# Altium footprint library QMC5883L.PcbLib: 1 footprints
Each footprint in its own frame and in the unit in brackets; x right, y up, seen from the top. Pads: shape width x height; smd on the part's side, far side on the other; paste and mask are expansions set on the pad; w line width, h text height; cw(c..) or ccw(c..) is an arc to the next point about the centre after c.
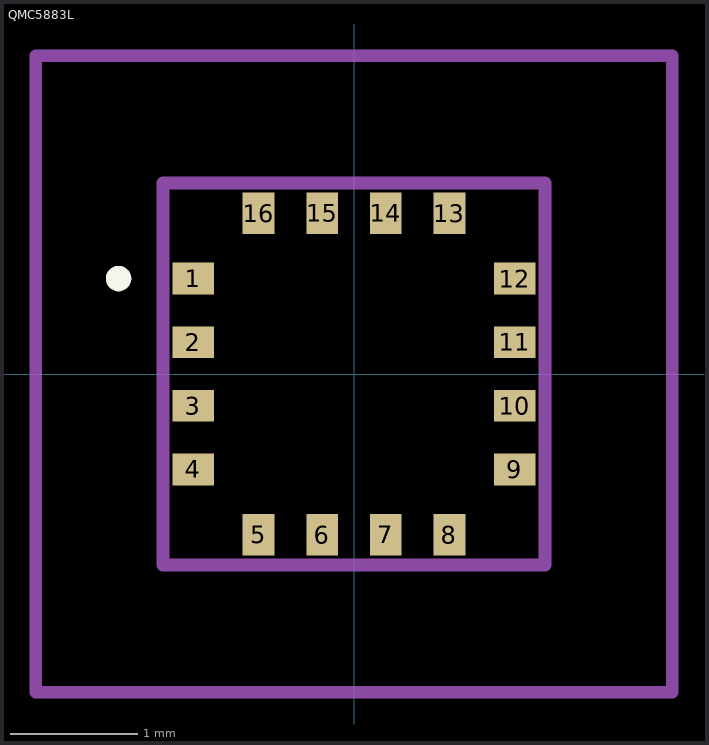
[diagram p0: the footprint, top view; thin cyan lines are the x and y axes]

## QMC5883L [mm]
pads (16):
  rect 0.325x0.25 smd: 1(-1.263,0.75) 2(-1.263,0.25) 3(-1.263,-0.25) 4(-1.263,-0.75) 9(1.263,-0.75) 10(1.263,-0.25) 11(1.263,0.25) 12(1.263,0.75)
  rect 0.25x0.325 smd: 5(-0.75,-1.263) 6(-0.25,-1.263) 7(0.25,-1.263) 8(0.75,-1.263) 13(0.75,1.263) 14(0.25,1.263) 15(-0.25,1.263) 16(-0.75,1.263)
Top Overlay:
  lines w0.1: -1.9,0.75 cw(c-1.85,0.75) -1.8,0.75 ; -1.9,0.75 -1.9,0.75 ; -1.9,0.75 ccw(c-1.85,0.75) -1.8,0.75 ; -1.8,0.75 -1.8,0.75
Mechanical 15:
  lines w0.1: -1.5,-1.5 1.5,-1.5 1.5,1.5 -1.5,1.5 -1.5,-1.5
Mechanical 20:
  lines w0.1: -2.5,-2.5 2.5,-2.5 2.5,2.5 -2.5,2.5 -2.5,-2.5